# Altium schematic symbol library ELECTROMECHANICAL.SchLib: 2 symbols
Pins are listed as number, name and electrical type; pins without a type are passive.

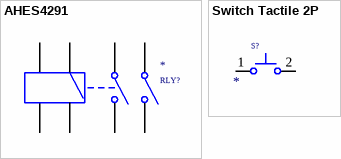
[diagram p0: symbols AHES4291 to Switch Tactile 2P]

## AHES4291
designator RLY?
RELAY GEN PURPOSE 3PST 35A 12V; Manufacturer Part Number: *
pins: 1, 2, 3, 4, 5, 6, 7, 8

## Switch Tactile 2P
designator S?
Manufacturer Part Number: *
pins: 1, 2